# Altium integrated library Lattice Logic Switch.IntLib: 5 symbols
Pins are listed as number, name and electrical type; pins without a type are passive.

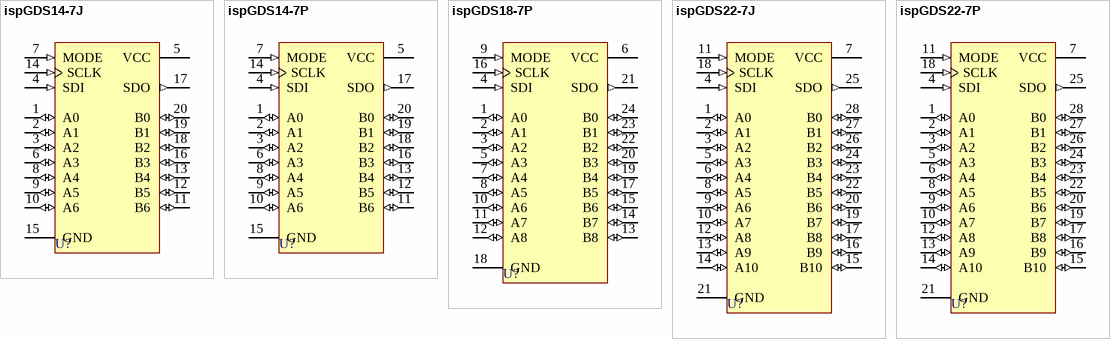
[diagram p0: symbols ispGDS14-7J to ispGDS22-7P]

## ispGDS14-7J
designator U?
In-System Programmable Generic Digital Switch; Published: 17-Jul-2002; LatestRevisionDate: 13-Apr-2006; LatestRevisionNote: IPC-7351 Footprint Added.; DatasheetVersion: Jul-1997; PackageVersion: pkg_32, Aug-2005; PackageReference: PLCC20; Publisher: Altium Limited; PackageDescription: 20-Pin Leaded Chip Carrier 1.27 mm Pitch; Code_IPC: PLCC-20; ComponentLink1Description: Manufacturer Link; ComponentLink1URL: http://www.latticesemi.com/; ComponentLink2Description: Datasheet; ComponentLink2URL: http://www.latticesemi.com/lit/docs/datasheets/gdx/ispgds.pdf
footprint PLCC20_N (Leaded Chip Carrier, 20-Leads, Body 9x9mm, Pitch 1.27mm, IPC Medium Density)
footprint PLCC20_L (Leaded Chip Carrier, 20-Leads, Body 9x9mm, Pitch 1.27mm, IPC High Density)
footprint PLCC20_M (Leaded Chip Carrier, 20-Leads, Body 9x9mm, Pitch 1.27mm, IPC Low Density)
3D model ispGDS14-PLCC-20 (20-Pin Leaded Chip Carrier 1.27 mm Pitch)
pins: 1 A0 (io), 2 A1 (io), 3 A2 (io), 4 SDI (in), 5 VCC (power), 6 A3 (io), 7 MODE (in), 8 A4 (io), 9 A5 (io), 10 A6 (io), 11 B6 (io), 12 B5 (io), 13 B4 (io), 14 SCLK (in), 15 GND (power), 16 B3 (io), 17 SDO (out), 18 B2 (io), 19 B1 (io), 20 B0 (io)

## ispGDS14-7P
designator U?
In-System Programmable Generic Digital Switch; Published: 17-Jul-2002; LatestRevisionDate: 06-Jun-2005; LatestRevisionNote: Stylized 3D Model Added.; DatasheetVersion: Jul-1997; PackageVersion: pkg_32, Aug-2005; PackageReference: PDIP20; Publisher: Altium Limited; PackageDescription: DIP; 20 Leads; Row Spacing 7.62 mm; Pitch 2.54 mm; Code_JEDEC: MS-001-AD; ComponentLink1Description: Manufacturer Link; ComponentLink1URL: http://www.latticesemi.com/; ComponentLink2Description: Datasheet; ComponentLink2URL: http://www.latticesemi.com/lit/docs/datasheets/gdx/ispgds.pdf
footprint PDIP20 (DIP; 20 Leads; Row Spacing 7.62 mm; Pitch 2.54 mm)
3D model PDIP-20 (DIP; 20 Leads; Row Spacing 7.62 mm; Pitch 2.54 mm)
pins: 1 A0 (io), 2 A1 (io), 3 A2 (io), 4 SDI (in), 5 VCC (power), 6 A3 (io), 7 MODE (in), 8 A4 (io), 9 A5 (io), 10 A6 (io), 11 B6 (io), 12 B5 (io), 13 B4 (io), 14 SCLK (in), 15 GND (power), 16 B3 (io), 17 SDO (out), 18 B2 (io), 19 B1 (io), 20 B0 (io)

## ispGDS18-7P
designator U?
In-System Programmable Generic Digital Switch; Published: 17-Jul-2002; LatestRevisionDate: 06-Jun-2005; LatestRevisionNote: Stylized 3D Model Added.; DatasheetVersion: Jul-1997; PackageVersion: pkg_32, Aug-2005; PackageReference: PDIP24; Publisher: Altium Limited; PackageDescription: DIP; 24 Leads; Row Spacing 7.62 mm; Pitch 2.54 mm; Code_JEDEC: MS-001-AF; ComponentLink1Description: Manufacturer Link; ComponentLink1URL: http://www.latticesemi.com/
footprint PDIP24 (DIP; 24 Leads; Row Spacing 7.62 mm; Pitch 2.54 mm)
3D model PDIP-24 (DIP; 24 Leads; Row Spacing 7.62 mm; Pitch 2.54 mm)
pins: 1 A0 (io), 2 A1 (io), 3 A2 (io), 4 SDI (in), 5 A3 (io), 6 VCC (power), 7 A4 (io), 8 A5 (io), 9 MODE (in), 10 A6 (io), 11 A7 (io), 12 A8 (io), 13 B8 (io), 14 B7 (io), 15 B6 (io), 16 SCLK (in), 17 B5 (io), 18 GND (power), 19 B4 (io), 20 B3 (io), 21 SDO (out), 22 B2 (io), 23 B1 (io), 24 B0 (io)

## ispGDS22-7J
designator U?
In-System Programmable Generic Digital Switch; Published: 17-Jul-2002; LatestRevisionDate: 13-Apr-2006; LatestRevisionNote: IPC-7351 Footprint Added.; DatasheetVersion: Jul-1997; PackageVersion: pkg_32, Aug-2005; PackageReference: PLCC28; Publisher: Altium Limited; PackageDescription: 28-Pin Leaded Chip Carrier 1.27 mm Pitch; Code_IPC: PLCC-28; ComponentLink1Description: Manufacturer Link; ComponentLink1URL: http://www.latticesemi.com/; ComponentLink2Description: Datasheet; ComponentLink2URL: http://www.latticesemi.com/lit/docs/datasheets/gdx/ispgds.pdf
footprint PLCC28_N (Leaded Chip Carrier, 28-Leads, Body 11.5x11.5mm, Pitch 1.27mm, IPC Medium Density)
footprint PLCC28_L (Leaded Chip Carrier, 28-Leads, Body 11.5x11.5mm, Pitch 1.27mm, IPC High Density)
footprint PLCC28_M (Leaded Chip Carrier, 28-Leads, Body 11.5x11.5mm, Pitch 1.27mm, IPC Low Density)
3D model ispGDS22-PLCC-28 (28-Pin Leaded Chip Carrier 1.27 mm Pitch)
pins: 1 A0 (io), 2 A1 (io), 3 A2 (io), 4 SDI (in), 5 A3 (io), 6 A4 (io), 7 VCC (power), 8 A5 (io), 9 A6 (io), 10 A7 (io), 11 MODE (in), 12 A8 (io), 13 A9 (io), 14 A10 (io), 15 B10 (io), 16 B9 (io), 17 B8 (io), 18 SCLK (in), 19 B7 (io), 20 B6 (io), 21 GND (power), 22 B5 (io), 23 B4 (io), 24 B3 (io), 25 SDO (out), 26 B2 (io), 27 B1 (io), 28 B0 (io)

## ispGDS22-7P
designator U?
In-System Programmable Generic Digital Switch; Published: 17-Jul-2002; LatestRevisionDate: 06-Jun-2005; LatestRevisionNote: Stylized 3D Model Added.; DatasheetVersion: Jul-1997; PackageVersion: pkg_32, Aug-2005; PackageReference: PDIP28; Publisher: Altium Limited; PackageDescription: DIP; 28 Leads; Row Spacing 7.62 mm; Pitch 2.54 mm; ComponentLink1Description: Manufacturer Link; ComponentLink1URL: http://www.latticesemi.com/; ComponentLink2Description: Datasheet; ComponentLink2URL: http://www.latticesemi.com/lit/docs/datasheets/gdx/ispgds.pdf
footprint PDIP28 (DIP; 28 Leads; Row Spacing 7.62 mm; Pitch 2.54 mm)
3D model PDIP-28 (DIP; 28 Leads; Row Spacing 7.62 mm; Pitch 2.54 mm)
pins: 1 A0 (io), 2 A1 (io), 3 A2 (io), 4 SDI (in), 5 A3 (io), 6 A4 (io), 7 VCC (power), 8 A5 (io), 9 A6 (io), 10 A7 (io), 11 MODE (in), 12 A8 (io), 13 A9 (io), 14 A10 (io), 15 B10 (io), 16 B9 (io), 17 B8 (io), 18 SCLK (in), 19 B7 (io), 20 B6 (io), 21 GND (power), 22 B5 (io), 23 B4 (io), 24 B3 (io), 25 SDO (out), 26 B2 (io), 27 B1 (io), 28 B0 (io)